# EAGLE library part 750316466 (library Wurth_Power Magnetics_WE-OLLT)
WE-OLLT Offline Flyback Transformers Characteristics Flyback topology Designs for Universal, US and European input voltages Low leakage inductance Isolation voltage up to 4500VAC Operating temperature: –40 °C to +125 °C Most products meet reinforced insulation Applications Offline Applications High DC VIN Isolated Applications Offline Bus Converter (12V, 24V or 48V Outputs) Industrial power supplies Medical power supplies Auxiliary power supply Home appliances Consumer electronics <https://www.we-online.com/components/media/o784499v209%20FAMILY-MID-OLLT-mixed.jpg> Details see: www.we-online.com/en/components/products/WE-OLLT <www.we-online.com/catalog/WE-OLLT/?utm_source=eagle_model&utm_medium=description_link&utm_campaign=eisos_eagle> Created by Ella Wu 2024-07-03 2024 (C) Wurth Elektronik
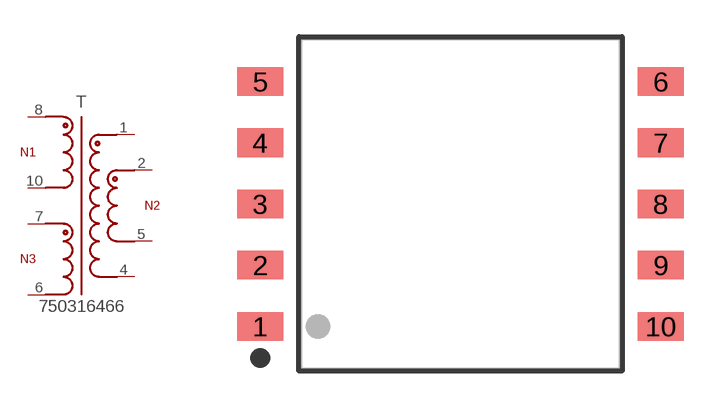
[diagram p21: symbol with the pads of WE-OLLT_EP13_L13.46W17.75H12.7; footprint WE-OLLT_EP13_L13.46W17.75H12.7]

Designator prefix T

## 750316466 (DATASHEET-URL: https://www.we-online.com/redexpert/spec/750316466?ae; FSWITCH: 50 - 130kHz; HEIGHT: 12.7mm; IOUT1: 600A; ISAT: 330V; L: 5uH; LENGTH: 13.46mm; MOUNT: SMT; N: 24:1:2; PART-NUMBER: 750316466; SIZE: EP13; VALUE: 750316466; VAUX: 24V; VIN: 50 - 92 V (AC); VOUT1: 12V; VT: 1500V(AC); WIDTH: 17.75mm)  [WE-OLLT_EP13_L13.46W17.75H12.7]
1  1  pas
2  2  pas
4  4  pas
5  5  pas
6  6  pas
7  7  pas
8  8  pas
10  10  pas

## Footprint WE-OLLT_EP13_L13.46W17.75H12.7 (pad centres in mm)
WE-OLLT Offline Flyback Transformers Size: EP13,THT,10pins LXWXH=13.46X17.75X12.7mm
smd 1.88 x 1.17: 1 -8.18,-5; 2 -8.18,-2.5; 3 -8.18,0; 4 -8.18,2.5; 5 -8.18,5; 6 8.18,5; 7 8.18,2.5; 8 8.18,0; 9 8.18,-2.5; 10 8.18,-5